# Altium footprint library Adapter_FootprintLib.PcbLib: 10 footprints
Each footprint in its own frame and in the unit in brackets; x right, y up, seen from the top. Pads: shape width x height; smd on the part's side, far side on the other; paste and mask are expansions set on the pad; w line width, h text height; cw(c..) or ccw(c..) is an arc to the next point about the centre after c.
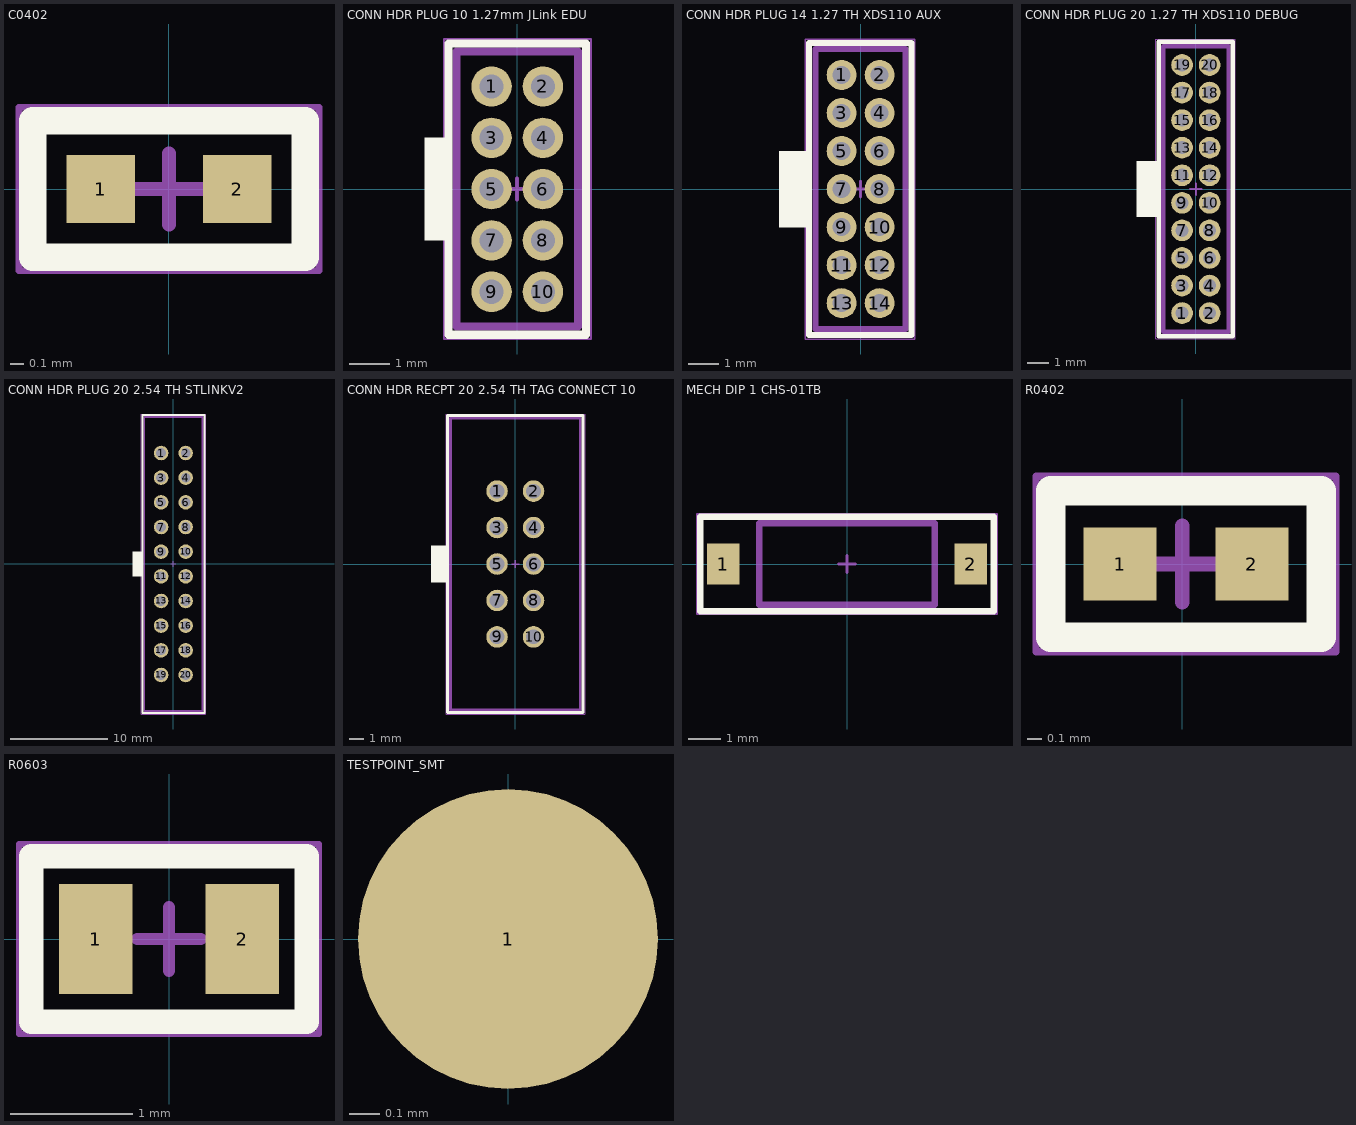
[diagram p0: the footprints below, top view; thin cyan lines are the x and y axes]

## C0402 [mm]
pads (2):
  rect 0.5x0.5 smd: 1(-0.5,0) 2(0.5,0)
Top Overlay:
  lines w0.2: -1,-0.5 -1,0 -1,0.5 1,0.5 1,-0.5 -1,-0.5
Mechanical 15:
  lines w0.05: -1.1,-0.6 -1.1,0.6 1.1,0.6 1.1,-0.6 -1.1,-0.6
  lines w0.1: -0.26,0 0.26,0 ; 0,-0.26 0,0.26
3D body "User Library-SMD CAPACITOR.step": height 0.51, standoff 0.01, extent -0.5,-0.25 0.5,0.25

## CONN HDR PLUG 10 1.27mm JLink EDU [mm]
pads (10):
  round 1 hole 0.6: 1(-0.635,2.54) 2(0.635,2.54) 3(-0.635,1.27) 4(0.635,1.27) 5(-0.635,0) 6(0.635,0) 7(-0.635,-1.27) 8(0.635,-1.27) 9(-0.635,-2.54) 10(0.635,-2.54)
Top Overlay:
  region: -2.286,-1.27 -1.7,-1.27 -1.7,1.27 -2.286,1.27
  lines w0.2: -1.7,-3.605 -1.7,-0.7 -1.7,3.605 1.7,3.605 1.7,-3.605 -1.7,-3.605
Mechanical 13:
  lines w0.2: -1.5,-3.405 -1.5,3.405 1.5,3.405 1.5,-3.405 -1.5,-3.405
Mechanical 15:
  lines w0.05: -1.806,-3.71 -1.806,3.715 1.83,3.715 1.83,-3.71 -1.806,-3.71
  lines w0.1: -0.26,0 0.26,0 ; 0,-0.26 0,0.26
3D body "20021311-0010XXLFc.stp": height 4.31, standoff -2.39, extent -1.5,-3.405 1.5,3.405

## CONN HDR PLUG 14 1.27 TH XDS110 AUX [mm]
pads (14):
  round 1 hole 0.6: 1(-0.635,3.81) 2(0.635,3.81) 3(-0.635,2.54) 4(0.635,2.54) 5(-0.635,1.27) 6(0.635,1.27) 7(-0.635,0) 8(0.635,0) 9(-0.635,-1.27) 10(0.635,-1.27) 11(-0.635,-2.54) 12(0.635,-2.54) 13(-0.635,-3.81) 14(0.635,-3.81)
Top Overlay:
  region: -2.716,-1.27 -1.7,-1.27 -1.7,1.27 -2.716,1.27
  lines w0.2: -1.716,-4.875 1.7,-4.875 1.7,4.875 -1.716,4.875 -1.716,-2.191 -1.716,-4.875
Mechanical 13:
  lines w0.2: -1.5,-4.675 -1.5,4.675 1.5,4.675 1.5,-4.675 -1.5,-4.675
Mechanical 15:
  lines w0.05: -1.844,-5.008 1.807,-5.008 1.807,5.01 -1.844,5.01 -1.844,-5.008
  lines w0.1: -0.26,0 0.26,0 ; 0,-0.26 0,0.26
3D body "20021311-0014XXLFc.stp": height 4.31, standoff -2.39, extent -1.5,-4.675 1.5,4.675

## CONN HDR PLUG 20 1.27 TH XDS110 DEBUG [mm]
pads (20):
  round 1 hole 0.6: 1(-0.635,-5.715) 2(0.635,-5.715) 3(-0.635,-4.445) 4(0.635,-4.445) 5(-0.635,-3.175) 6(0.635,-3.175) 7(-0.635,-1.905) 8(0.635,-1.905) 9(-0.635,-0.635) 10(0.635,-0.635) 11(-0.635,0.635) 12(0.635,0.635) 13(-0.635,1.905) 14(0.635,1.905) 15(-0.635,3.175) 16(0.635,3.175) 17(-0.635,4.445) 18(0.635,4.445) 19(-0.635,5.715) 20(0.635,5.715)
Top Overlay:
  region: -2.716,-1.27 -1.7,-1.27 -1.7,1.27 -2.716,1.27
  lines w0.2: -1.716,-6.78 1.7,-6.78 1.7,6.78 -1.716,6.78 -1.716,-2.191 -1.716,-6.78
Mechanical 13:
  lines w0.2: -1.5,-6.58 1.5,-6.58 1.5,6.58 -1.5,6.58 -1.5,-6.58
Mechanical 15:
  lines w0.05: -1.844,-6.909 1.807,-6.909 1.807,6.912 -1.844,6.912 -1.844,-6.909
  lines w0.1: -0.26,0 0.26,0 ; 0,-0.26 0,0.26
3D body "20021311-0020XXLFc.stp": height 4.31, standoff -2.39, extent -1.5,-6.58 1.5,6.58

## CONN HDR PLUG 20 2.54 TH STLINKV2 [mm]
pads (20):
  round 1.5 hole 1: 1(-1.27,11.43) 2(1.27,11.43) 3(-1.27,8.89) 4(1.27,8.89) 5(-1.27,6.35) 6(1.27,6.35) 7(-1.27,3.81) 8(1.27,3.81) 9(-1.27,1.27) 10(1.27,1.27) 11(-1.27,-1.27) 12(1.27,-1.27) 13(-1.27,-3.81) 14(1.27,-3.81) 15(-1.27,-6.35) 16(1.27,-6.35) 17(-1.27,-8.89) 18(1.27,-8.89) 19(-1.27,-11.43) 20(1.27,-11.43)
Top Overlay:
  region: -4.191,-1.27 -3.175,-1.27 -3.175,1.27 -4.191,1.27
  lines w0.2: -3.191,-15.349 3.191,-15.349 3.191,15.349 -3.191,15.349 -3.191,-2.191 -3.191,-15.349
Mechanical 13:
  lines w0.2: -3,-15.16 3,-15.16 3,15.16 -3,15.16 -3,-15.16
Mechanical 15:
  lines w0.05: -3.291,-15.449 3.291,-15.449 3.291,15.449 -3.291,15.449 -3.291,-15.449
  lines w0.1: -0.26,0 0.26,0 ; 0,-0.26 0,0.26
3D body "SFH11-xxPC-D10-ST-BK.STEP": height 8.51, standoff -3.19, extent -4.1,-15.16 3,15.16

## CONN HDR RECPT 20 2.54 TH TAG CONNECT 10 [mm]
pads (10):
  round 1.5 hole 1.02: 1(-1.27,5.08) 2(1.27,5.08) 3(-1.27,2.54) 4(1.27,2.54) 5(-1.27,0) 6(1.27,0) 7(-1.27,-2.54) 8(1.27,-2.54) 9(-1.27,-5.08) 10(1.27,-5.08)
Top Overlay:
  region: -5.841,-1.27 -4.687,-1.27 -4.687,1.27 -5.841,1.27
  lines w0.2: -4.725,-10.35 -4.725,-3.725 -4.725,10.35 4.725,10.35 4.725,-10.35 -4.725,-10.35
Mechanical 13:
  lines w0.2: -4.525,-10.15 -4.525,10.15 4.525,10.15 4.525,-10.15 -4.525,-10.15
Mechanical 15:
  lines w0.05: -4.825,-10.45 -4.825,10.45 4.825,10.45 4.825,-10.45 -4.825,-10.45
  lines w0.1: -0.26,0 0.26,0 ; 0,-0.26 0,0.26

## MECH DIP 1 CHS-01TB [mm]
pads (2):
  rect 1x1.27 smd: 1(-3.81,0) 2(3.81,0)
Top Overlay:
  lines w0.2: -4.51,-1.45 4.51,-1.45 4.51,1.45 -4.51,1.45 -4.51,-1.45
Mechanical 13:
  lines w0.2: -2.7,-1.25 2.7,-1.25 2.7,1.25 -2.7,1.25 -2.7,-1.25
Mechanical 15:
  lines w0.05: -4.61,-1.55 -4.61,1.55 4.61,1.55 4.61,-1.55 -4.61,-1.55
  lines w0.1: -0.26,0 0.26,0 ; 0,-0.26 0,0.26
3D body "CHS-01TB.stp": height 2.42, standoff -0.1, extent -4,-1.25 4,1.25

## R0402 [mm]
pads (2):
  rect 0.5x0.5 smd: 1(-0.425,0) 2(0.475,0)
Top Overlay:
  lines w0.2: -0.9,-0.5 0.95,-0.5 0.95,0.5 -0.9,0.5 -0.9,-0.5
Mechanical 15:
  lines w0.05: -1,-0.6 -1,0.6 1.05,0.6 1.05,-0.6 -1,-0.6
  lines w0.1: -0.26,0 0.26,0 ; 0,-0.26 0,0.26
3D body "User Library-CR1005-0402.step": height 0.36, standoff 0.01, extent -0.5,-0.25 0.5,0.25

## R0603 [mm]
pads (2):
  rect 0.6x0.9 smd: 1(-0.6,0) 2(0.6,0)
Top Overlay:
  lines w0.2: -1.125,-0.675 -1.125,0.175 -1.125,0.675 1.125,0.675 1.125,-0.675 -1.125,-0.675
Mechanical 15:
  lines w0.05: -1.225,-0.775 1.225,-0.775 1.225,0.775 -1.225,0.775 -1.225,-0.775
  lines w0.1: -0.26,0 0.26,0 ; 0,-0.26 0,0.26
3D body "User Library-SMD Resistors.step": height 0.46, standoff 0.01, extent -0.775,-0.43 0.775,0.43

## TESTPOINT_SMT [mm] "testpoint smt"
pads (1):
  round 1 smd: 1(0,0)